# Altium schematic symbol library Schlib1.SchLib: 1 symbol
Pins are listed as number, name and electrical type; pins without a type are passive.

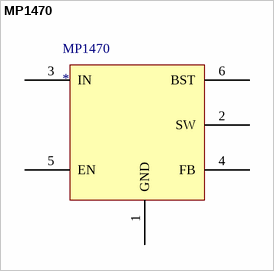
[diagram p0: symbol MP1470]

## MP1470
designator MP1470
pins: 1 GND, 2 SW, 3 IN, 4 FB, 5 EN, 6 BST